# EAGLE library part DA108S1 (library st-microelectronics)
DIODE ARRAY (ASD)
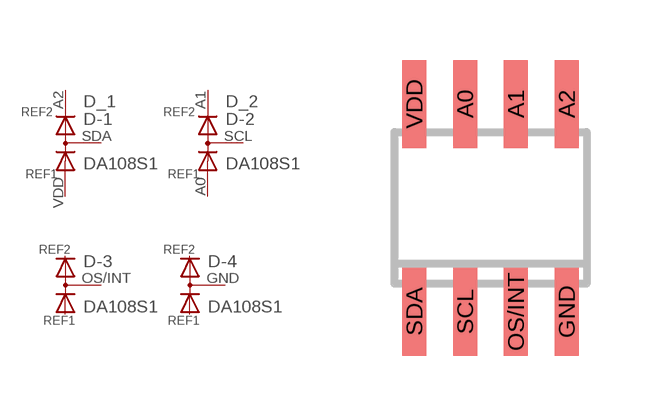
[diagram p3: symbol with the pads of SO08; footprint SO08]

Designator prefix D; gates _1=REF -1=D-1 _2=REF -2=D-1 -3=D-2-1 -4=D-2-1

## DA108S1 (MF: Arrow Electronics; MPN: DA108S1; OC_FARNELL: 9802215; OC_NEWARK: 89K0513)  [SO08]
A0  _2:REF1  pas
A1  _2:REF2  pas
A2  _1:REF2  pas
GND  -4:K  pas
OS/INT  -3:K  pas
SCL  -2:K  pas
SDA  -1:K  pas
VDD  _1:REF1  pas

## Footprint SO08 (pad centres in mm)
SMALL OUTLINE INTEGRATED CIRCUIT body 3.9 mm/JEDEC MS-012AA
smd 0.6 x 2.2: A0 -0.635,2.6; A1 0.635,2.6; A2 1.905,2.6; GND 1.905,-2.6; OS/INT 0.635,-2.6; SCL -0.635,-2.6; SDA -1.905,-2.6; VDD -1.905,2.6